# Altium footprint library DSUB1.385-2H9-MALE.PcbLib: 1 footprints
Each footprint in its own frame and in the unit in brackets; x right, y up, seen from the top. Pads: shape width x height; smd on the part's side, far side on the other; paste and mask are expansions set on the pad; w line width, h text height; cw(c..) or ccw(c..) is an arc to the next point about the centre after c.
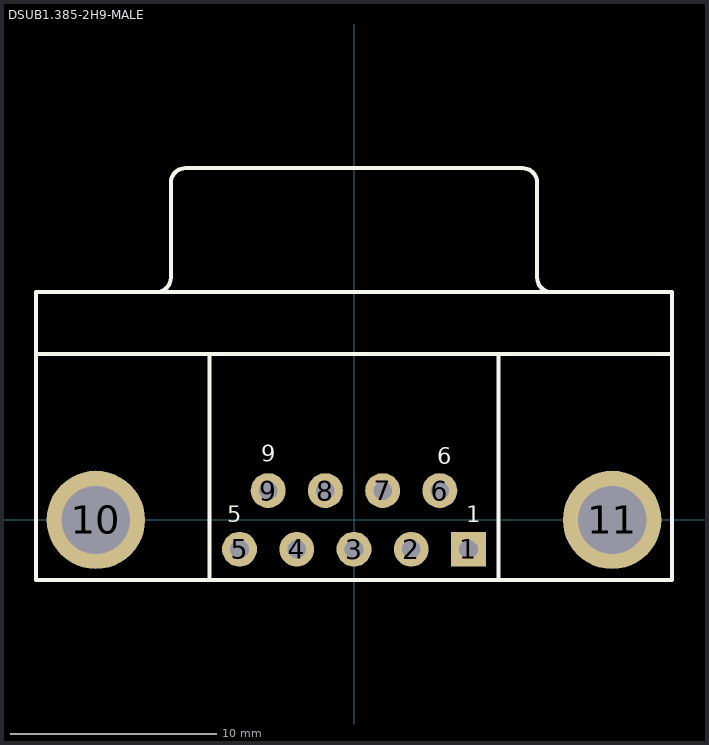
[diagram p0: the footprint, top view; thin cyan lines are the x and y axes]

## DSUB1.385-2H9-MALE [mm] "Connector; D Subminiature; 9 Position; Right Angle; Pitch 1.385 mm"
height 1
pads (11):
  rect 1.69x1.69 hole 0.9: 1(5.54,-1.42)
  round 1.69 hole 0.9: 2(2.77,-1.42) 3(0,-1.42) 4(-2.77,-1.42) 5(-5.54,-1.42) 6(4.155,1.42) 7(1.385,1.42) 8(-1.385,1.42) 9(-4.155,1.42)
  round 4.76 hole 3.3: 10(-12.495,0) 11(12.495,0)
Top Overlay:
  lines w0.2: -15.4,8.024 15.4,8.024 ; -9.56,11.029 ccw(c-9.56,11.724) -8.865,11.724 ; -8.865,11.724 -8.865,16.324 ; -8.86,16.329 cw(c-8.165,16.329) -8.165,17.024 8.165,17.024 cw(c8.165,16.329) 8.86,16.329 ; -7,-2.9 -7,8.024 ; 7,-2.9 7,8.024 ; 8.865,11.724 ccw(c9.56,11.724) 9.56,11.029 ; 8.865,11.724 8.865,16.324 ; -15.4,-2.9 15.4,-2.9 15.4,11.024 -15.4,11.024 -15.4,-2.9
  text "5" at -6.132,-0.104 h0.8
  text "1" at 5.425,-0.104 h0.8
  text "6" at 4.028,2.69 h0.8
  text "9" at -4.481,2.817 h0.8
3D body: height 4, standoff -3, extent 12.959,0.066 13.904,0.521
3D body: height 4, standoff -3, extent 11.069,-0.117 12.136,0.612
3D body: height 4, standoff -3, extent -12.144,-0.221 -11.077,0.508
3D body: height 4, standoff -3, extent -13.912,-0.129 -12.967,0.325